# Altium footprint library PIC18F25K50IML.PcbLib: 4 footprints
Each footprint in its own frame and in the unit in brackets; x right, y up, seen from the top. Pads: shape width x height; smd on the part's side, far side on the other; paste and mask are expansions set on the pad; w line width, h text height; cw(c..) or ccw(c..) is an arc to the next point about the centre after c.
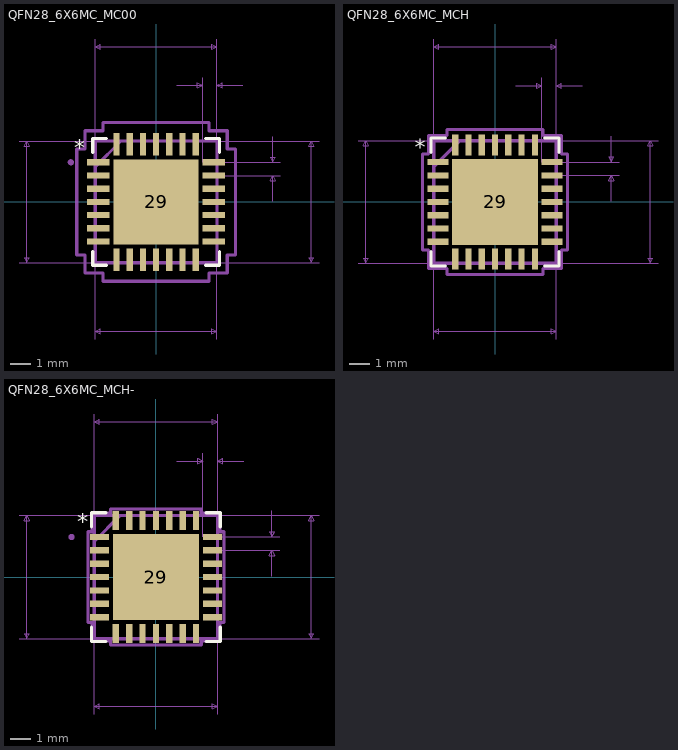
[diagram p0: the footprints below, top view; thin cyan lines are the x and y axes]

## PCBComponent_1 [mil]

## QFN28_6X6MC_MC00 [mil]
pads (29):
  rect 44x12 smd: 1(-112,76.77) 2(-112,51.18) 3(-112,25.59) 4(-112,0) 5(-112,-25.59) 6(-112,-51.18) 7(-112,-76.77) 15(112,-76.77) 16(112,-51.18) 17(112,-25.59) 18(112,0) 19(112,25.59) 20(112,51.18) 21(112,76.77)
  rect 12x44 smd: 8(-76.77,-112) 9(-51.18,-112) 10(-25.59,-112) 11(0,-112) 12(25.59,-112) 13(51.18,-112) 14(76.77,-112) 22(76.77,112) 23(51.18,112) 24(25.59,112) 25(0,112) 26(-25.59,112) 27(-51.18,112) 28(-76.77,112)
  rect 165x165 smd: 29(0,0)
Top Overlay:
  lines w6: -123,-95.87 -123,-123 -95.87,-123 ; -123,95.87 -123,123 -95.87,123 ; 95.87,-123 123,-123 123,-95.87 ; 95.87,123 123,123 123,95.87
  text "*" at -159,89.57 h31.25
Mechanical 1:
  lines w1: -118,68 -68,118 ; -118,-118 -118,118 118,118 118,-118 -118,-118 ; -118,-83.77 -118,-69.77 -118,-83.77 ; -118,-58.18 -118,-44.18 -118,-58.18 ; -118,-32.59 -118,-18.59 -118,-32.59 ; -118,-7 -118,7 -118,-7 ; -118,18.59 -118,32.59 -118,18.59 ; -118,44.18 -118,58.18 -118,44.18 ; -118,69.77 -118,83.77 -118,69.77 ; -83.77,-118 -69.77,-118 -83.77,-118 ; -83.77,118 -69.77,118 -83.77,118 ; -58.18,-118 -44.18,-118 -58.18,-118 ; -58.18,118 -44.18,118 -58.18,118 ; -32.59,-118 -18.59,-118 -32.59,-118 ; -32.59,118 -18.59,118 -32.59,118 ; -7,-118 7,-118 -7,-118 ; -7,118 7,118 -7,118 ; 18.59,-118 32.59,-118 18.59,-118 ; 18.59,118 32.59,118 18.59,118 ; 44.18,-118 58.18,-118 44.18,-118 ; 44.18,118 58.18,118 44.18,118 ; 69.77,-118 83.77,-118 69.77,-118 ; 69.77,118 83.77,118 69.77,118 ; 118,-83.77 118,-69.77 118,-83.77 ; 118,-58.18 118,-44.18 118,-58.18 ; 118,-32.59 118,-18.59 118,-32.59 ; 118,-7 118,7 118,-7 ; 118,18.59 118,32.59 118,18.59 ; 118,44.18 118,58.18 118,44.18 ; 118,69.77 118,83.77 118,69.77
  text "*" at -90,89.57 h31.25
Mechanical 16:
  circle w6: c-165.5,76.77 r3
  lines w1: -266,-118 118,-118 ; -266,118 118,118 118,-266 ; -118,-266 -118,118 ; -118,76.77 -118,316 ; 40,226 90,226 ; 76.77,-118 316,-118 ; 76.77,118 316,118 ; 90,76.77 90,241 ; 112,51.18 241,51.18 ; 112,76.77 241,76.77 ; 118,241 118,76.77 118,316 ; 168,226 118,226 ; 226,1.18 226,51.18 ; 226,126.77 226,76.77 ; -251,-118 -246,-108 -256,-108 -251,-118 ; -251,-118 -251,118 ; -251,118 -246,108 -256,108 -251,118 ; -118,-251 -108,-256 -108,-246 -118,-251 ; -118,-251 118,-251 ; -118,301 -108,296 -108,306 -118,301 ; -118,301 118,301 ; 90,226 80,221 80,231 90,226 ; 118,-251 108,-256 108,-246 118,-251 ; 118,226 128,221 128,231 118,226 ; 118,301 108,296 108,306 118,301 ; 226,51.18 231,41.18 221,41.18 226,51.18 ; 226,76.77 231,86.77 221,86.77 226,76.77 ; 301,-118 306,-108 296,-108 301,-118 ; 301,-118 301,118 ; 301,118 306,108 296,108 301,118
  lines w6: -118,68 -68,118 ; -154,-102.77 -154,102.77 -138,102.77 -138,138 -102.77,138 -102.77,154 102.77,154 102.77,138 138,138 138,102.77 154,102.77 154,-102.77 138,-102.77 138,-138 102.77,-138 102.77,-154 -102.77,-154 -102.77,-138 -138,-138 -138,-102.77 -154,-102.77 ; -118,-118 118,-118 118,118 -118,118 -118,-118
  text "0.236in/5.994mm" at 0,-271 h15.62
  text "0.236in/5.994mm" at -271,0 h15.62
  text "0.236in/5.994mm" at 321,0 h15.62
  text "0.236in/5.994mm" at 0,321 h15.62
  text "0.028in/0.711mm" at 104,246 h15.62
  text "0.026in/0.65mm" at 246,63.98 h15.62
  text "Alt 2 Padstyle: OX90Y60D30P" at 0,-634 h31.25
  text "Alt 1 Padstyle: OX60Y90D30P" at 0,-574 h31.25
  text "Heat Tab Padstyle: RX165Y165D0T" at 0,-454 h31.25
  text "Default Padstyle: RX12Y44D0T" at 0,-394 h31.25

## QFN28_6X6MC_MCH [mil]
pads (29):
  rect 40x12 smd: 1(-110,76.77) 2(-110,51.18) 3(-110,25.59) 4(-110,0) 5(-110,-25.59) 6(-110,-51.18) 7(-110,-76.77) 15(110,-76.77) 16(110,-51.18) 17(110,-25.59) 18(110,0) 19(110,25.59) 20(110,51.18) 21(110,76.77)
  rect 12x40 smd: 8(-76.77,-110) 9(-51.18,-110) 10(-25.59,-110) 11(0,-110) 12(25.59,-110) 13(51.18,-110) 14(76.77,-110) 22(76.77,110) 23(51.18,110) 24(25.59,110) 25(0,110) 26(-25.59,110) 27(-51.18,110) 28(-76.77,110)
  rect 165x165 smd: 29(0,0)
Top Overlay:
  lines w6: -123,-95.87 -123,-123 -95.87,-123 ; -123,95.87 -123,123 -95.87,123 ; 95.87,-123 123,-123 123,-95.87 ; 95.87,123 123,123 123,95.87
  text "*" at -155,89.57 h31.25
Mechanical 1:
  lines w1: -118,68 -68,118 ; -118,-118 -118,118 118,118 118,-118 -118,-118 ; -118,-83.77 -118,-69.77 -118,-83.77 ; -118,-58.18 -118,-44.18 -118,-58.18 ; -118,-32.59 -118,-18.59 -118,-32.59 ; -118,-7 -118,7 -118,-7 ; -118,18.59 -118,32.59 -118,18.59 ; -118,44.18 -118,58.18 -118,44.18 ; -118,69.77 -118,83.77 -118,69.77 ; -83.77,-118 -69.77,-118 -83.77,-118 ; -83.77,118 -69.77,118 -83.77,118 ; -58.18,-118 -44.18,-118 -58.18,-118 ; -58.18,118 -44.18,118 -58.18,118 ; -32.59,-118 -18.59,-118 -32.59,-118 ; -32.59,118 -18.59,118 -32.59,118 ; -7,-118 7,-118 -7,-118 ; -7,118 7,118 -7,118 ; 18.59,-118 32.59,-118 18.59,-118 ; 18.59,118 32.59,118 18.59,118 ; 44.18,-118 58.18,-118 44.18,-118 ; 44.18,118 58.18,118 44.18,118 ; 69.77,-118 83.77,-118 69.77,-118 ; 69.77,118 83.77,118 69.77,118 ; 118,-83.77 118,-69.77 118,-83.77 ; 118,-58.18 118,-44.18 118,-58.18 ; 118,-32.59 118,-18.59 118,-32.59 ; 118,-7 118,7 118,-7 ; 118,18.59 118,32.59 118,18.59 ; 118,44.18 118,58.18 118,44.18 ; 118,69.77 118,83.77 118,69.77
  text "*" at -90,89.57 h31.25
Mechanical 16:
  lines w1: -264,-118 118,-118 ; -264,118 118,118 118,-264 ; -118,-264 -118,118 ; -118,76.77 -118,314 ; 40,224 90,224 ; 76.77,-118 314,-118 ; 76.77,118 314,118 ; 90,76.77 90,239 ; 110,51.18 239,51.18 ; 110,76.77 239,76.77 ; 118,239 118,76.77 118,314 ; 168,224 118,224 ; 224,1.18 224,51.18 ; 224,126.77 224,76.77 ; -249,-118 -244,-108 -254,-108 -249,-118 ; -249,-118 -249,118 ; -249,118 -244,108 -254,108 -249,118 ; -118,-249 -108,-254 -108,-244 -118,-249 ; -118,-249 118,-249 ; -118,299 -108,294 -108,304 -118,299 ; -118,299 118,299 ; 90,224 80,219 80,229 90,224 ; 118,-249 108,-254 108,-244 118,-249 ; 118,224 128,219 128,229 118,224 ; 118,299 108,294 108,304 118,299 ; 224,51.18 229,41.18 219,41.18 224,51.18 ; 224,76.77 229,86.77 219,86.77 224,76.77 ; 299,-118 304,-108 294,-108 299,-118 ; 299,-118 299,118 ; 299,118 304,108 294,108 299,118
  lines w6: -118,68 -68,118 ; -140,-92.77 -140,92.77 -128,92.77 -128,128 -92.77,128 -92.77,140 92.77,140 92.77,128 128,128 128,92.77 140,92.77 140,-92.77 128,-92.77 128,-128 92.77,-128 92.77,-140 -92.77,-140 -92.77,-128 -128,-128 -128,-92.77 -140,-92.77 ; -118,-118 118,-118 118,118 -118,118 -118,-118
  text "0.236in/5.994mm" at 0,-269 h15.62
  text "0.236in/5.994mm" at -269,0 h15.62
  text "0.236in/5.994mm" at 319,0 h15.62
  text "0.236in/5.994mm" at 0,319 h15.62
  text "0.028in/0.711mm" at 104,244 h15.62
  text "0.026in/0.65mm" at 244,63.98 h15.62
  text "Alt 2 Padstyle: OX90Y60D30P" at 0,-630 h31.25
  text "Alt 1 Padstyle: OX60Y90D30P" at 0,-570 h31.25
  text "Heat Tab Padstyle: RX165Y165D0T" at 0,-450 h31.25
  text "Default Padstyle: RX12Y40D0T" at 0,-390 h31.25

## QFN28_6X6MC_MCH- [mil]
pads (29):
  rect 36x12 smd: 1(-108,76.77) 2(-108,51.18) 3(-108,25.59) 4(-108,0) 5(-108,-25.59) 6(-108,-51.18) 7(-108,-76.77) 15(108,-76.77) 16(108,-51.18) 17(108,-25.59) 18(108,0) 19(108,25.59) 20(108,51.18) 21(108,76.77)
  rect 12x36 smd: 8(-76.77,-108) 9(-51.18,-108) 10(-25.59,-108) 11(0,-108) 12(25.59,-108) 13(51.18,-108) 14(76.77,-108) 22(76.77,108) 23(51.18,108) 24(25.59,108) 25(0,108) 26(-25.59,108) 27(-51.18,108) 28(-76.77,108)
  rect 165x165 smd: 29(0,0)
Top Overlay:
  lines w6: -123,-95.87 -123,-123 -95.87,-123 ; -123,95.87 -123,123 -95.87,123 ; 95.87,-123 123,-123 123,-95.87 ; 95.87,123 123,123 123,95.87
  text "*" at -151,89.57 h31.25
Mechanical 1:
  lines w1: -118,68 -68,118 ; -118,-118 -118,118 118,118 118,-118 -118,-118 ; -118,-83.77 -118,-69.77 -118,-83.77 ; -118,-58.18 -118,-44.18 -118,-58.18 ; -118,-32.59 -118,-18.59 -118,-32.59 ; -118,-7 -118,7 -118,-7 ; -118,18.59 -118,32.59 -118,18.59 ; -118,44.18 -118,58.18 -118,44.18 ; -118,69.77 -118,83.77 -118,69.77 ; -83.77,-118 -69.77,-118 -83.77,-118 ; -83.77,118 -69.77,118 -83.77,118 ; -58.18,-118 -44.18,-118 -58.18,-118 ; -58.18,118 -44.18,118 -58.18,118 ; -32.59,-118 -18.59,-118 -32.59,-118 ; -32.59,118 -18.59,118 -32.59,118 ; -7,-118 7,-118 -7,-118 ; -7,118 7,118 -7,118 ; 18.59,-118 32.59,-118 18.59,-118 ; 18.59,118 32.59,118 18.59,118 ; 44.18,-118 58.18,-118 44.18,-118 ; 44.18,118 58.18,118 44.18,118 ; 69.77,-118 83.77,-118 69.77,-118 ; 69.77,118 83.77,118 69.77,118 ; 118,-83.77 118,-69.77 118,-83.77 ; 118,-58.18 118,-44.18 118,-58.18 ; 118,-32.59 118,-18.59 118,-32.59 ; 118,-7 118,7 118,-7 ; 118,18.59 118,32.59 118,18.59 ; 118,44.18 118,58.18 118,44.18 ; 118,69.77 118,83.77 118,69.77
  text "*" at -90,89.57 h31.25
Mechanical 16:
  circle w6: c-161.5,76.77 r3
  lines w1: -262,-118 118,-118 ; -262,118 118,118 118,-262 ; -118,-262 -118,118 ; -118,76.77 -118,312 ; 40,222 90,222 ; 76.77,-118 312,-118 ; 76.77,118 312,118 ; 90,76.77 90,237 ; 108,51.18 237,51.18 ; 108,76.77 237,76.77 ; 118,237 118,76.77 118,312 ; 168,222 118,222 ; 222,1.18 222,51.18 ; 222,126.77 222,76.77 ; -247,-118 -242,-108 -252,-108 -247,-118 ; -247,-118 -247,118 ; -247,118 -242,108 -252,108 -247,118 ; -118,-247 -108,-252 -108,-242 -118,-247 ; -118,-247 118,-247 ; -118,297 -108,292 -108,302 -118,297 ; -118,297 118,297 ; 90,222 80,217 80,227 90,222 ; 118,-247 108,-252 108,-242 118,-247 ; 118,222 128,217 128,227 118,222 ; 118,297 108,292 108,302 118,297 ; 222,51.18 227,41.18 217,41.18 222,51.18 ; 222,76.77 227,86.77 217,86.77 222,76.77 ; 297,-118 302,-108 292,-108 297,-118 ; 297,-118 297,118 ; 297,118 302,108 292,108 297,118
  lines w6: -118,68 -68,118 ; -130,-86.77 -130,86.77 -122,86.77 -122,122 -86.77,122 -86.77,130 86.77,130 86.77,122 122,122 122,86.77 130,86.77 130,-86.77 122,-86.77 122,-122 86.77,-122 86.77,-130 -86.77,-130 -86.77,-122 -122,-122 -122,-86.77 -130,-86.77 ; -118,-118 118,-118 118,118 -118,118 -118,-118
  text "0.236in/5.994mm" at 0,-267 h15.62
  text "0.236in/5.994mm" at -267,0 h15.62
  text "0.236in/5.994mm" at 317,0 h15.62
  text "0.236in/5.994mm" at 0,317 h15.62
  text "0.028in/0.711mm" at 104,242 h15.62
  text "0.026in/0.65mm" at 242,63.98 h15.62
  text "Alt 2 Padstyle: OX90Y60D30P" at 0,-626 h31.25
  text "Alt 1 Padstyle: OX60Y90D30P" at 0,-566 h31.25
  text "Heat Tab Padstyle: RX165Y165D0T" at 0,-446 h31.25
  text "Default Padstyle: RX12Y36D0T" at 0,-386 h31.25